# EAGLE library part IR3109-OTA (library joakim)
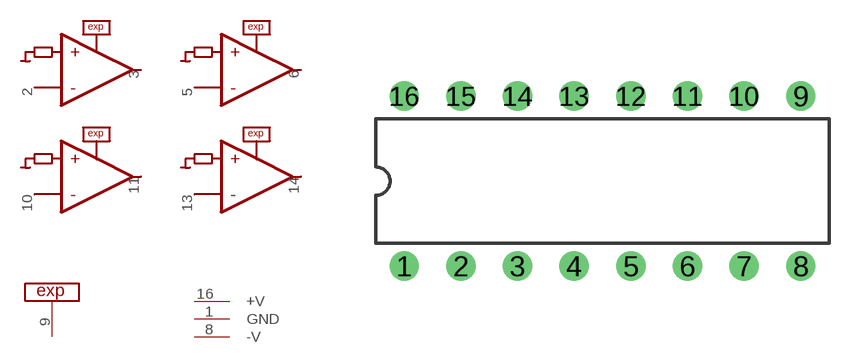
[diagram p25: symbol with the pads of DIL16J; footprint DIL16J]

Designator prefix -; gates G$1=IR3109-OTA G$2=IR3109-OTA G$3=IR3109-OTA G$4=IR3109-OTA G$5=IR3109-EXP G$6=IR3109-PWR

## IR3109-OTA  [DIL16J]
1  G$6:GND  in
2  G$1:IN
3  G$1:CAP
5  G$2:IN
6  G$2:CAP
8  G$6:-V  pwr
9  G$5:CTRL  in
10  G$3:IN
11  G$3:CAP
13  G$4:IN
14  G$4:CAP
16  G$6:+V  pwr

## Footprint DIL16J (pad centres in mm)
Dual In Line 16
drill 0.813: 1 -8.89,-3.81; 2 -6.35,-3.81; 3 -3.81,-3.81; 4 -1.27,-3.81; 5 1.27,-3.81; 6 3.81,-3.81; 7 6.35,-3.81; 8 8.89,-3.81; 9 8.89,3.81; 10 6.35,3.81; 11 3.81,3.81; 12 1.27,3.81; 13 -1.27,3.81; 14 -3.81,3.81; 15 -6.35,3.81; 16 -8.89,3.81